# Altium footprint library I2C_Shield.PcbLib: 8 footprints
Each footprint in its own frame and in the unit in brackets; x right, y up, seen from the top. Pads: shape width x height; smd on the part's side, far side on the other; paste and mask are expansions set on the pad; w line width, h text height; cw(c..) or ccw(c..) is an arc to the next point about the centre after c.
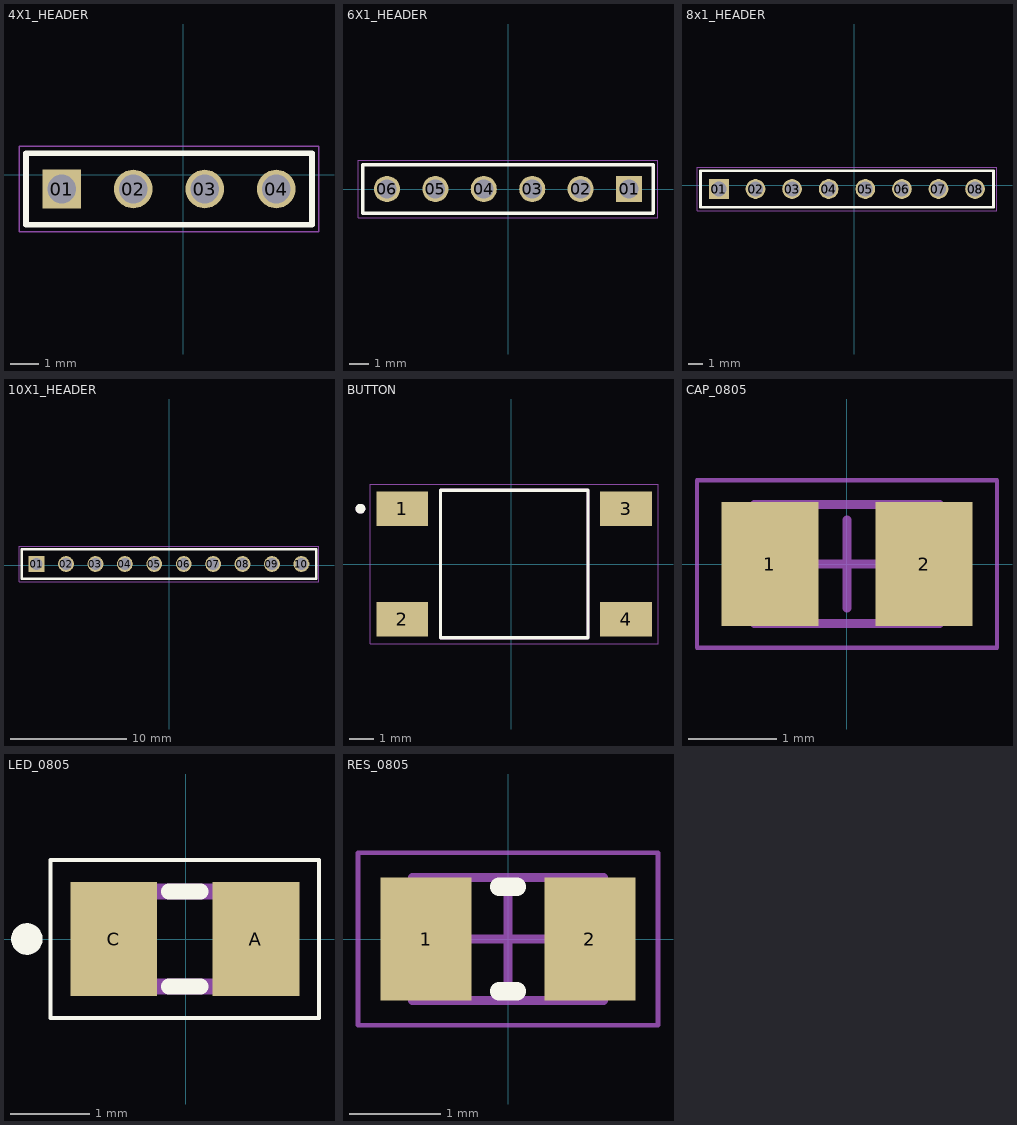
[diagram p0: the footprints below, top view; thin cyan lines are the x and y axes]

## 4X1_HEADER [mm]
pads (4):
  rect 1.37x1.37 hole 1.02: 01(-4.318,-0.508)
  round 1.37 hole 1.02: 02(-1.778,-0.508) 03(0.762,-0.508) 04(3.302,-0.508)
Top Overlay:
  lines w0.2: -5.588,-1.778 -5.588,0.762 4.572,0.762 4.572,-1.778 -5.588,-1.778
Mechanical 13:
  lines w0.1: -5.588,-1.778 -5.588,0.762 4.572,0.762 4.572,-1.778 -5.588,-1.778
Mechanical 15:
  lines w0.05: -5.838,-2.028 4.822,-2.028 4.822,1.012 -5.838,1.012 -5.838,-2.028
3D body "PPTC041LFBN-RC--3DModel-STEP-269445.STEP": height 8.51, standoff -3.2, extent -5.842,-1.778 4.826,0.762

## 6X1_HEADER [mm]
pads (6):
  rect 1.37x1.37 / inner round 1.37 / far side rect 1.37x1.37 hole 1.02: 01(6.35,0)
  round 1.37 hole 1.02: 02(3.81,0) 03(1.27,0) 04(-1.27,0) 05(-3.81,0) 06(-6.35,0)
Top Overlay:
  lines w0.2: -7.62,-1.27 -7.62,1.27 7.62,1.27 7.62,-1.27 -7.62,-1.27
Mechanical 13:
  lines w0.1: -7.62,-1.27 -7.62,1.27 ; -7.62,-1.27 7.62,-1.27 ; -7.62,-1.27 -7.62,1.27 ; -7.62,1.27 7.62,1.27 ; -7.62,1.27 7.62,1.27 ; 7.62,-1.27 7.62,1.27 ; 7.62,-1.27 7.62,1.27
Mechanical 15:
  lines w0.05: -7.87,-1.52 -7.87,1.52 7.87,1.52 7.87,-1.52 -7.87,-1.52
3D body "MTSW-106-10-T-S-570.stp": height 17.02, standoff -4.06, extent -7.747,-1.27 7.493,1.27

## 8x1_HEADER [mm]
pads (16):
  rect 1.37x1.37 hole 1.02: 01(-9.398,-0.254) 01(-9.398,-0.254)
  round 1.37 hole 1.02: 02(-6.858,-0.254) 02(-6.858,-0.254) 03(-4.318,-0.254) 03(-4.318,-0.254) 04(-1.778,-0.254) 04(-1.778,-0.254) 05(0.762,-0.254) 05(0.762,-0.254) 06(3.302,-0.254) 06(3.302,-0.254) 07(5.842,-0.254) 07(5.842,-0.254) 08(8.382,-0.254) 08(8.382,-0.254)
Top Overlay:
  lines w0.2: -10.668,-1.524 -10.668,1.016 ; -10.668,-1.524 9.652,-1.524 ; -10.668,-1.524 -10.668,1.016 ; -10.668,-1.524 9.652,-1.524 ; -10.668,1.016 9.652,1.016 ; -10.668,1.016 9.652,1.016 ; 9.652,-1.524 9.652,1.016 ; 9.652,-1.524 9.652,1.016
Mechanical 13:
  lines w0.1: -10.668,-1.524 -10.668,1.016 ; -10.668,-1.524 9.652,-1.524 ; -10.668,-1.524 -10.668,1.016 ; -10.668,-1.524 9.652,-1.524 ; -10.668,1.016 9.652,1.016 ; -10.668,1.016 9.652,1.016 ; 9.652,-1.524 9.652,1.016 ; 9.652,-1.524 9.652,1.016
Mechanical 15:
  lines w0.05: -10.918,-1.774 -10.918,1.266 ; -10.918,-1.774 9.902,-1.774 ; -10.918,-1.774 -10.918,1.266 ; -10.918,-1.774 9.902,-1.774 ; -10.918,1.266 9.902,1.266 ; -10.918,1.266 9.902,1.266 ; 9.902,-1.774 9.902,1.266 ; 9.902,-1.774 9.902,1.266
3D body "HTSW-108-07-G-S-LL.stp": height 8.38, standoff -2.54, extent -10.595,-1.548 9.725,0.941

## 10X1_HEADER [mm]
pads (10):
  rect 1.37x1.37 / inner round 1.37 / far side rect 1.37x1.37 hole 1.02: 01(-11.43,0.127)
  round 1.37 hole 1.02: 02(-8.89,0.127) 03(-6.35,0.127) 04(-3.81,0.127) 05(-1.27,0.127) 06(1.27,0.127) 07(3.81,0.127) 08(6.35,0.127) 09(8.89,0.127) 10(11.43,0.127)
Top Overlay:
  lines w0.2: -12.7,-1.143 12.7,-1.143 12.7,1.397 -12.7,1.397 -12.7,-1.143
Mechanical 13:
  lines w0.1: -12.7,-1.143 -12.7,1.397 ; -12.7,-1.143 12.7,-1.143 ; -12.7,-1.143 -12.7,1.397 ; -12.7,1.397 12.7,1.397 ; -12.7,1.397 12.7,1.397 ; 12.7,-1.143 12.7,1.397 ; 12.7,-1.143 12.7,1.397
Mechanical 15:
  lines w0.05: -12.95,-1.393 12.95,-1.393 12.95,1.647 -12.95,1.647 -12.95,-1.393
3D body "TSW-110-20-L-S.stp": height 28.45, standoff -2.79, extent -12.954,-1.27 12.573,1.27

## BUTTON [mm]
pads (4):
  rect 2.1x1.4 smd: 1(-4.423,2.25) 2(-4.423,-2.25) 3(4.677,2.25) 4(4.677,-2.25)
Top Overlay:
  circle w0.2: c-6.123,2.25 r0.1
  lines w0.127: -2.873,-3 -2.873,3 3.127,3 3.127,-3 -2.873,-3
Mechanical 13:
  circle w0.2: c-6.123,2.25 r0.1
  lines w0.127: -2.873,-3 -2.873,3 3.127,3 3.127,-3 -2.873,-3
Mechanical 15:
  lines w0.05: -5.723,-3.25 -5.723,3.25 5.977,3.25 5.977,-3.25 -5.723,-3.25
3D body "step_temp.STEP": height 9.5, standoff -0.1, extent -4.873,-3 5.127,3

## CAP_0805 [mm]
height 0.85
pads (2):
  rect 1.1x1.4 smd: 1(-0.875,0) 2(0.875,0)
Mechanical 13:
  lines w0.1: -1.05,-0.675 -1.05,0.675 1.05,0.675 1.05,-0.675 -1.05,-0.675
Mechanical 15:
  lines w0.05: -1.7,-0.95 -1.7,0.95 1.7,0.95 1.7,-0.95 -1.7,-0.95
  lines w0.1: -0.5,0 0.5,0 ; 0,-0.5 0,0.5
3D body "CAP_0805.step": height 0.85, standoff 0, extent -1.05,-0.675 1.05,0.675

## LED_0805 [mm]
pads (2):
  rect 1.1x1.45 smd: A(0.889,0) C(-0.911,0)
Top Overlay:
  circle w0.2: c-2.011,0 r0.1
  lines w0.05: -1.711,-1 -1.711,1 1.689,1 1.689,-1 -1.711,-1
  lines w0.2: -0.211,-0.6 0.189,-0.6 ; -0.211,0.6 0.189,0.6
Mechanical 13:
  region: 0.989,-0.6 0.489,-0.6 0.489,0.6 0.989,0.6
  region: -0.511,-0.6 -1.011,-0.6 -1.011,0.6 -0.511,0.6
  lines w0.2: -1.011,-0.6 -1.011,0.6 0.989,0.6 0.989,-0.6 -1.011,-0.6
3D body "step_temp.STEP": height 0.7, standoff 0, extent -1.011,-0.625 0.989,0.625

## RES_0805 [mm] "Chip Resistor, 2-Leads, Body 2,00x1,25mm, IPC Medium Density"
height 0.5
pads (2):
  rect 1x1.35 smd: 1(-0.9,0) 2(0.9,0)
Top Overlay:
  lines w0.2: -0.1,-0.575 0.1,-0.575 ; -0.1,0.575 0.1,0.575
Mechanical 13:
  lines w0.1: -1.05,-0.675 -1.05,0.675 1.05,0.675 1.05,-0.675 -1.05,-0.675
Mechanical 15:
  lines w0.05: -1.65,-0.95 -1.65,0.95 1.65,0.95 1.65,-0.95 -1.65,-0.95
  lines w0.1: -0.5,0 0.5,0 ; 0,-0.5 0,0.5
3D body "RES_0805.step": height 0.5, standoff 0, extent -1.05,-0.675 1.05,0.675